# Altium schematic symbol library Sensor.SchLib: 8 symbols
Pins are listed as number, name and electrical type; pins without a type are passive.

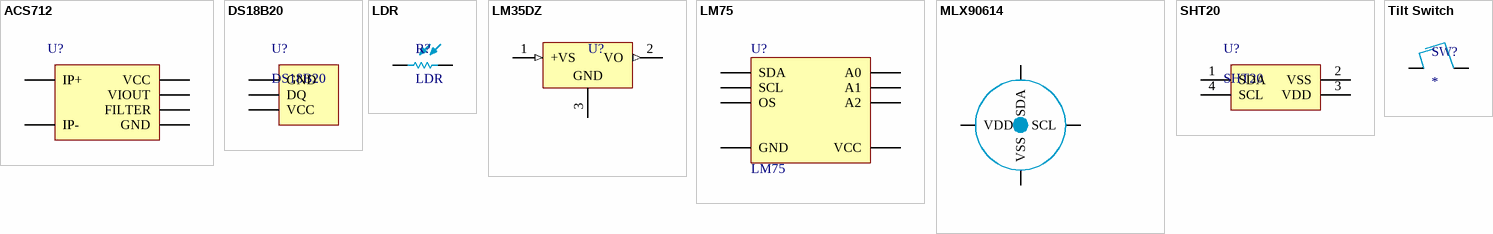
[diagram p0: symbols ACS712 to Tilt Switch]

## ACS712
designator U?  (value not drawn)
Fully Integrated, Hall-Effect-Based Linear Current Sensor IC
footprint TSSOP8
pins: 1 IP+, 2 IP+, 3 IP-, 4 IP-, 5 GND, 6 FILTER, 7 VIOUT, 8 VCC

## DS18B20
designator U?
Programmable Resolution 1-Wire Digital Thermometer
footprint SOT54 (TO, Flat Index; 3 In-Line, Axial Leads; Body Dia. 4.6mm; Leads 0.48 x 0.45 mm (max))
pins: 1 GND, 2 DQ, 3 VCC

## LDR
designator R?
footprint ldr-5 (5mm LDR)
pins: 1, 2

## LM35DZ
designator U?
Precision Centigrade Temperature Sensor, 3-pin TO-92; PartNumber: LM35DZ; Manufacturer: National Semiconductor; PackageTopMarking: NSXYTT*LM35*DZ; PowerWise: N; CompType: Temp Sensor IC; Published: 4-Dec-2008; LatestRevisionDate: 15-Jul-2009; LatestRevisionNote: Sch pins 1 & 3 reversed.; DatasheetVersion: Nov-2000; PackageVersion: revG, Sep-2000; PackageReference: Z03A; Publisher: Altium Limited; PackageDescription: TO-92, Molded, 3 Lead; RoHS: N; PinCount: 3; Code_JEDEC: TO-226-AA; ComponentLink1Description: LM35 Datasheet; ComponentLink1URL: http://www.national.com/ds/LM/LM35.pdf; ComponentLink2Description: LM35 Web Page; ComponentLink2URL: http://www.national.com/pf/LM/LM35.html; ComponentLink3Description: Z03A Package Page; ComponentLink3URL: http://www.national.com/packaging/folders/z03a.html
footprint SOT54 (TO, Flat Index; 3 In-Line, Axial Leads; Body Dia. 4.6mm; Leads 0.48 x 0.45 mm (max))
pins: 1 +VS (in), 2 VO (out), 3 GND (power)

## LM75
designator U?
Digital Temperature Sensor and Thermal Watchdog with 2-Wire Interface; Published: 13-Oct-2000; LatestRevisionDate: 17-Jul-2002; LatestRevisionNote: Re-released for DXP Platform.; DatasheetVersion: 10-Aug-1999; PackageVersion: 1999; PackageReference: DIP8; Publisher: Altium Limited; PackageDescription: DIP, 8-Pin, Row Spacing 7.62 mm, Pitch 2.54 mm; ComponentLink1Description: Manufacturer Link; ComponentLink1URL: http://www.maxim-ic.com/; ComponentLink2Description: Datasheet; ComponentLink2URL: http://pdfserv.maxim-ic.com/en/ds/DS1307.pdf; ComponentLink3Description: Discontinuation Notice; ComponentLink3URL: http://www.maxim-ic.com/qa/pdfs/non-obsolescence-letter.pdf
footprint DIP8 (DIP, 8-Leads, Row Spacing 7.62mm, Pitch 2.54mm, Body 9.65x6.35mm)
pins: 1 SDA, 2 SCL, 3 OS, 4 GND (power), 5 A2, 6 A1 (power), 7 A0 (power), 8 VCC

## MLX90614
designator U?
footprint TO-39-4Pin
pins: 1 SCL, 2 SDA, 3 VDD, 4 VSS

## SHT20
designator U?
Board Mount Humidity Sensors Humid & Temp Sensor
footprint SHTXX
pins: 1 SDA, 2 VSS, 3 VDD, 4 SCL

## Tilt Switch
designator SW?
Tilt Switch
footprint HDX
pins: 1, 2